# Altium footprint library SOP-18_L11.6-W7.5-P1.27-LS10.3-BL.PcbLib: 1 footprints
Each footprint in its own frame and in the unit in brackets; x right, y up, seen from the top. Pads: shape width x height; smd on the part's side, far side on the other; paste and mask are expansions set on the pad; w line width, h text height; cw(c..) or ccw(c..) is an arc to the next point about the centre after c.
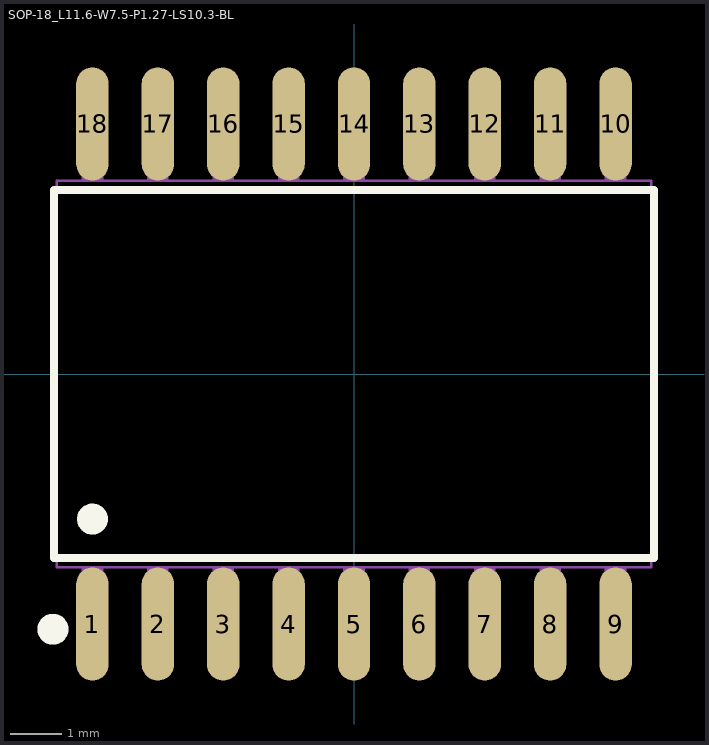
[diagram p0: the footprint, top view; thin cyan lines are the x and y axes]

## SOP-18_L11.6-W7.5-P1.27-LS10.3-BL [mm]
pads (18):
  oval 0.63x2.2 smd: 1(-5.08,-4.857) 2(-3.81,-4.857) 3(-2.54,-4.857) 4(-1.27,-4.857) 5(0,-4.857) 6(1.27,-4.857) 7(2.54,-4.857) 8(3.81,-4.857) 9(5.08,-4.857) 10(5.08,4.857) 11(3.81,4.857) 12(2.54,4.857) 13(1.27,4.857) 14(0,4.857) 15(-1.27,4.857) 16(-2.54,4.857) 17(-3.81,4.857) 18(-5.08,4.857)
Top Overlay:
  circle w0.3: c-5.847,-4.958 r0.15
  circle w0.3: c-5.08,-2.819 r0.15
  lines w0.152: -5.826,-3.571 5.826,-3.571 5.826,3.571 -5.826,3.571 -5.826,-3.571
Mechanical 6:
  circle w0.3: c-5.08,-5.55 r0.15
Mechanical 15:
  drawing of 41 lines, arcs and shapes, not listed